# EAGLE library part M15S (library con-amp-quick)
AMP QUICK CONNECTOR
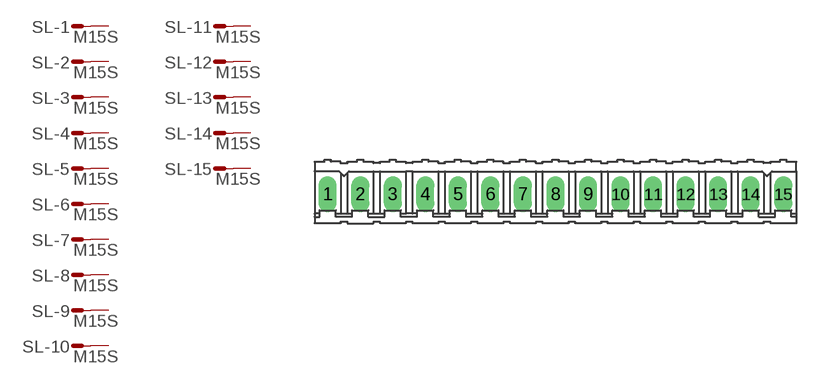
[diagram p38: symbol with the pads of 15P; footprint 15P]

Designator prefix SL; gates -1=M -2=M -3=M -4=M -5=M -6=M -7=M -8=M -9=M -10=M -11=M -12=M -13=M -14=M -15=M

## M15S (OC_FARNELL: unknown; OC_NEWARK: unknown)  [15P]
1  -1:S  pas
2  -2:S  pas
3  -3:S  pas
4  -4:S  pas
5  -5:S  pas
6  -6:S  pas
7  -7:S  pas
8  -8:S  pas
9  -9:S  pas
10  -10:S  pas
11  -11:S  pas
12  -12:S  pas
13  -13:S  pas
14  -14:S  pas
15  -15:S  pas

## Footprint 15P (pad centres in mm)
AMP QUICK CONNECTOR
drill 0.914 long: 1 -17.78,0; 2 -15.24,0; 3 -12.7,0; 4 -10.16,0; 5 -7.62,0; 6 -5.08,0; 7 -2.54,0; 8 0,0; 9 2.54,0; 10 5.08,0; 11 7.62,0; 12 10.16,0; 13 12.7,0; 14 15.24,0; 15 17.78,0